# Altium schematic symbol library BMP_sym.SchLib: 1 symbol
Pins are listed as number, name and electrical type; pins without a type are passive.

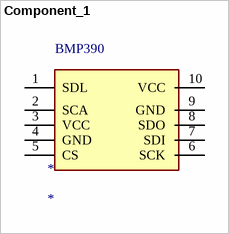
[diagram p0: symbol Component_1]

## Component_1
designator *
footprint BMP390
footprint BMP390
pins: 1 SDL, 2 SCA, 3 VCC, 4 GND, 5 CS, 6 SCK, 7 SDI, 8 SDO, 9 GND, 10 VCC
text: BMP390